# Altium footprint library D_Connectors.PcbLib: 4 footprints
Each footprint in its own frame and in the unit in brackets; x right, y up, seen from the top. Pads: shape width x height; smd on the part's side, far side on the other; paste and mask are expansions set on the pad; w line width, h text height; cw(c..) or ccw(c..) is an arc to the next point about the centre after c.
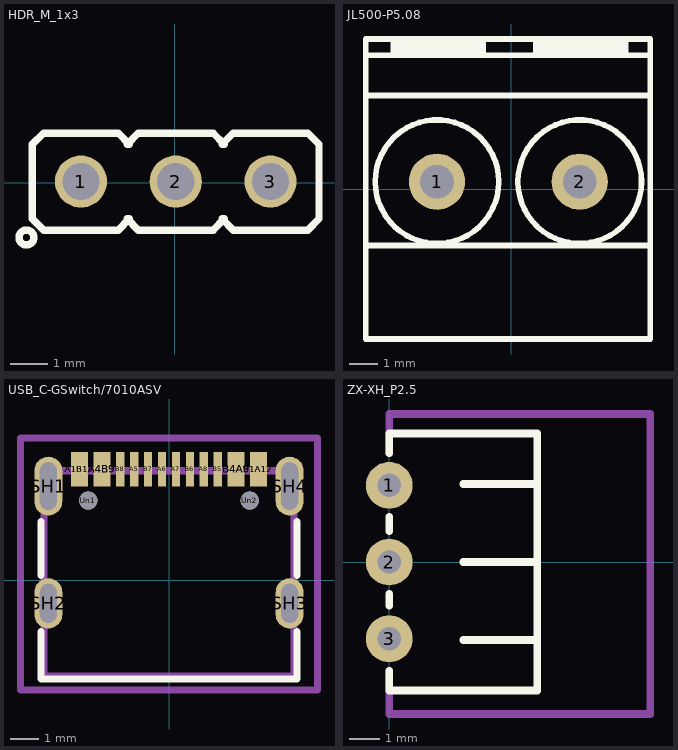
[diagram p0: the footprints below, top view; thin cyan lines are the x and y axes]

## HDR_M_1x3 [mm]
pads (3):
  round 1.4 / inner round 1.4 / far side oval 1.4x2.2 hole 1 mask+0.1: 1(-2.509,0.034) 2(0.031,0.034) 3(2.571,0.034)
Top Overlay:
  circle w0.2: c-3.969,-1.466 r0.2
  lines w0.2: -1.269,-0.966 -0.969,-1.266 1.031,-1.266 1.331,-0.966 ; -1.269,1.034 -0.969,1.334 1.031,1.334 1.331,1.034 ; -1.209,-0.966 -1.509,-1.266 -3.509,-1.266 -3.809,-0.966 -3.809,1.034 -3.509,1.334 -1.509,1.334 -1.209,1.034 ; 1.271,-0.966 1.571,-1.266 3.571,-1.266 3.871,-0.966 3.871,1.034 3.571,1.334 1.571,1.334 1.271,1.034
3D body "PLS-1.step": height 8.54, standoff -2.9, extent 1.327,-1.235 3.867,1.305
3D body "PLS-1.step": height 8.54, standoff -2.9, extent -3.753,-1.235 -1.213,1.305
3D body "PLS-1.step": height 8.54, standoff -2.9, extent -1.213,-1.235 1.327,1.305

## JL500-P5.08 [mm]
pads (2):
  round 2 / inner round 2 / far side oval 2.4x3 hole 1.2: 1(-2.644,0.266) 2(2.436,0.266)
Top Overlay:
  circle w0.2: c-2.644,0.266 r2.2
  circle w0.2: c2.436,0.266 r2.2
  rectangle: -4.304,4.766 -0.904,5.346
  rectangle: 0.776,4.766 4.176,5.346
  lines w0.2: -5.184,-2.004 4.951,-2.004 ; -5.184,3.336 4.951,3.336 ; -5.184,4.766 4.951,4.766 ; -5.184,-5.334 4.951,-5.334 4.951,5.346 -5.184,5.346 -5.184,-5.334
3D body "User Library-klema-5mm-2pin.step": height 14, standoff -4, extent -5.104,-5.234 4.896,5.266

## USB_C-GSwitch/7010ASV [mm]
pads (22):
  rect 0.6x1.24 smd: A1B12(-3.2,3.979) A1B12(-3.2,3.979) A4B9(-2.4,3.979) A4B9(-2.4,3.979) B1A12(3.2,3.979) B1A12(3.2,3.979) B4A9(2.4,3.979) B4A9(2.4,3.979)
  rect 0.3x1.24 smd: A5(-1.25,3.979) A6(-0.25,3.979) A7(0.25,3.979) A8(1.25,3.979) B5(1.75,3.979) B6(0.75,3.979) B7(-0.75,3.979) B8(-1.75,3.979)
  rrect100% 1x2.1 hole 1.7 slot 0.6 at 0 deg: SH1(-4.32,3.379) SH4(4.32,3.379)
  rrect100% 1x1.8 hole 1.4 slot 0.6 at 0 deg: SH2(-4.32,-0.821) SH3(4.32,-0.821)
  round 0.65 hole 0.65: Un1(-2.89,2.859) Un2(2.89,2.859)
Top Overlay:
  lines w0.254: -4.58,-1.826 -4.58,-3.531 4.58,-3.531 4.58,-1.826 ; -4.58,0.184 -4.58,2.104 ; 4.58,0.184 4.58,2.104
Mechanical 4:
  lines w0.254: -5.32,-3.926 -5.32,5.104 5.32,5.104 5.32,-3.926 -5.32,-3.926
Mechanical 6:
  lines w0.254: -4.47,-3.421 -4.47,3.929 4.47,3.929 4.47,-3.421 -4.47,-3.421
3D body "USB_type_C_smd_24p.STEP": height 3.15, standoff -0.6, extent -4.555,-3.771 4.445,4.279

## ZX-XH_P2.5 [mil] "1x3P 3P XH Tin 3 -25℃~+85℃ 3A 1 2.5mm Brass Right-Angle Push-Pull,P=2.5mm Wire To Board Connector ROHS"
pads (3):
  round 60 hole 30: 1(0,98.43) 2(0,0) 3(0,-98.43)
Top Overlay:
  lines w10: 0,-140 0,-165 190,-165 190,165 0,165 0,140 ; 0,-56.16 0,-41.16 ; 0,40 0,57.85 ; 95,-100 190,-100 ; 95,0 190,0 ; 95,100 185,100
Mechanical 1:
  lines w10: 0,-140 0,-195 335,-195 335,190 0,190 0,140
3D body "JST-XH-3A_Scalable.STEP": height 236.22, standoff -136.22, extent -2.32,-194.76 332.32,195